# Altium schematic symbol library Connectors.SchLib: 22 symbols
Pins are listed as number, name and electrical type; pins without a type are passive.

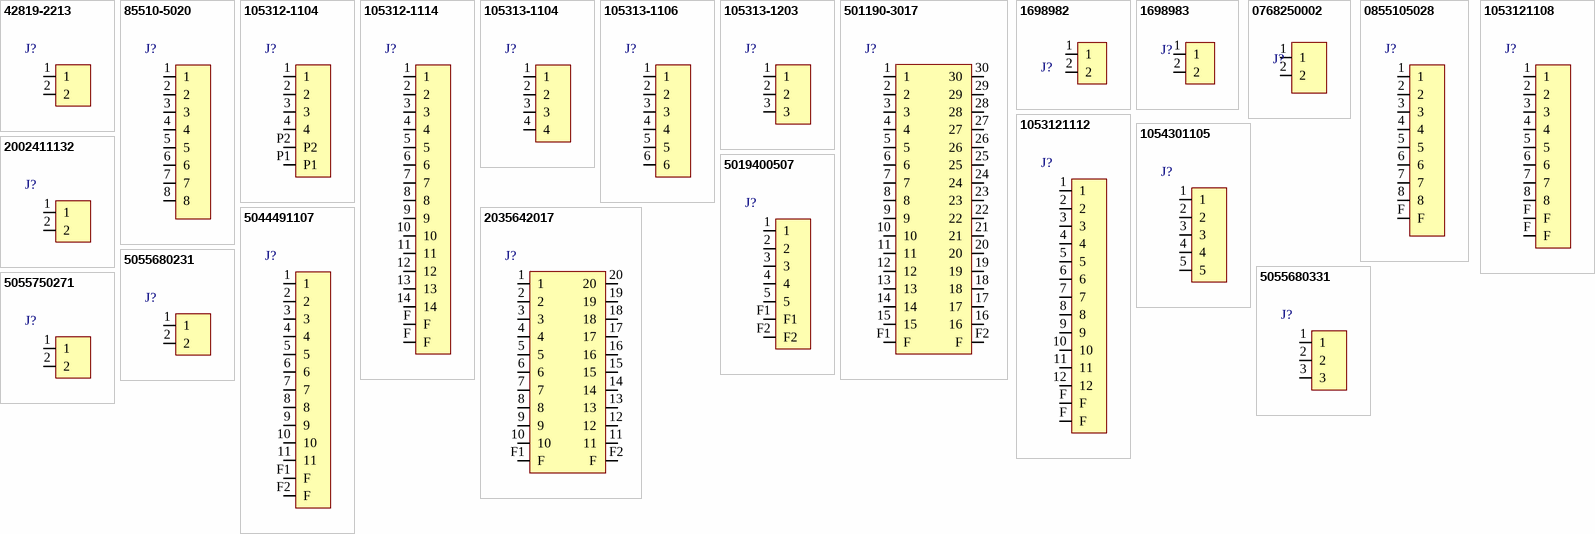
[diagram p0: symbols 42819-2213 to 5055750271]

## 42819-2213
designator J?  (value not drawn)
MOLEX - 42819-2213 - Wire-To-Board Connector, 10 mm, 2 Contacts, Header, Mini-Fit Sr. 42819 Series, Through Hole, 1 Rows; Number of Contacts: 2; Contact Resistance: 1mR; Current Rating: 50A; Voltage Rating: 600V; Gender: Male; Pitch: 10mm; Glow Wire Compliant: Non-compliant; Supplier 1: RSComponents; Manufacturer: Molex; Manufacturer Part Number: 42819-2213; RoHS: Yes; Category: Headers and Wire Housings; Stock 1: 114; Pricing 1: 1=5,81000, 20=5,58100, 75=5,35300, 300=4,06200, 600=3,94100 (USD); Mount: Through Hole; Contact Plating: Gold; Contact Material: Brass,Tin; Color: Black; Housing Material: Thermoplastic; Material: Thermoplastic; Min Operating Temperature: -40°C; Max Operating Temperature: 105°C; Number of Rows: 1; Termination: Solder; Packaging: Tray; Package Quantity: 468; Number of Positions: 2; Orientation: Vertical; Series: 42819; Number of Circuits: 2; Radiation Hardening: No; RoHS Compliant: Yes; REACH SVHC: Unknown; Flammability Rating: UL94 V-0; ComponentLink1URL: https://datasheet.ciiva.com/7920/1481610-7920739.pdf?src-supplier=Element14; ComponentLink1Description: https://datasheet.ciiva.com/7920/1481610-7920739.pdf?src-supplier=Element14; ComponentLink2URL: https://datasheet.ciiva.com/10089/0428192213-pcb-headers-10089410.pdf?src-supplier=Avnet; ComponentLink2Description: https://datasheet.ciiva.com/10089/0428192213-pcb-headers-10089410.pdf?src-supplier=Avnet; ComponentLink3URL: https://datasheet.ciiva.com/30171/305960428192213-pcb-headers-30171150.pdf?src-supplier=Onlinecomponents.com; ComponentLink3Description: https://datasheet.ciiva.com/30171/305960428192213-pcb-headers-30171150.pdf?src-supplier=Onlinecomponents.com; ComponentLink4URL: https://datasheet.ciiva.com/13679/0428192213-pcb-headers-228584-13679074.pdf?src-supplier=Mouser; ComponentLink4Description: https://datasheet.ciiva.com/13679/0428192213-pcb-headers-228584-13679074.pdf?src-supplier=Mouser; ComponentLink5URL: https://datasheet.ciiva.com/30493/0900766b80d5b10d-30493190.pdf?src-supplier=RSComponents; ComponentLink5Description: https://datasheet.ciiva.com/30493/0900766b80d5b10d-30493190.pdf?src-supplier=RSComponents; ComponentLink6URL: https://datasheet.ciiva.com/16725/0428192213-pcb-headers-16725404.pdf?src-supplier=Avnet+Europe; ComponentLink6Description: https://datasheet.ciiva.com/16725/0428192213-pcb-headers-16725404.pdf?src-supplier=Avnet+Europe
footprint CON_428192213
pins: 1, 2

## 85510-5020
designator J?  (value not drawn)
Modular Jack, Vertical, Top Entry, Surface Mount, 8/8, Solder Tabs, 13" Reel; Manufacturer: Molex; Manufacturer Part Number: 85510-5020; Shielding: Unshielded; Connector Type: RJ45; Number of Ports: 1; Number of Positions Loaded: 8; Max Voltage Rating (DC): 125V; Gender: Female; Current Rating: 1.5A; Pitch: 1.27mm; Supplier 1: Newark; RoHS: Yes; Category: Modular / Ethernet Connectors; Stock 1: 964; Pricing 1: 1=1,50000, 10=1,29000, 25=1,25000, 50=1,22000, 100=1,19000, 250=1,18000 (USD); Mount: Surface Mount; Contact Plating: Gold; Contact Material: Copper Alloy,Copper; Housing Color: Black; Housing Material: Thermoplastic; Min Operating Temperature: -40°C; Max Operating Temperature: 80°C; Package Quantity: 1260; Packaging: Tape and Reel; Termination: SMD/SMT; Number of Contacts: 8; Orientation: Straight; Voltage Rating: 125V; Number of Positions: 8; Series: 85510; Length: 15.24mm; Width: 15.24mm; Depth: 17.37mm; REACH SVHC: Unknown; Halogen Free: Low Halogen; RoHS Compliant: Yes; ComponentLink1URL: https://datasheet.ciiva.com/4562/0855105020-modular-jacks-plug-175872-4562581.pdf?src-supplier=Mouser; ComponentLink1Description: https://datasheet.ciiva.com/4562/0855105020-modular-jacks-plug-175872-4562581.pdf?src-supplier=Mouser; ComponentLink2URL: https://datasheet.ciiva.com/24441/41670855105020-modular-jacks-plug-24441365.pdf?src-supplier=Onlinecomponents.com; ComponentLink2Description: https://datasheet.ciiva.com/24441/41670855105020-modular-jacks-plug-24441365.pdf?src-supplier=Onlinecomponents.com; ComponentLink3URL: https://datasheet.ciiva.com/9392/0855105020-modular-jacks-plug-9392962.pdf?src-supplier=Avnet; ComponentLink3Description: https://datasheet.ciiva.com/9392/0855105020-modular-jacks-plug-9392962.pdf?src-supplier=Avnet; ComponentLink4URL: https://datasheet.ciiva.com/26929/getdatasheetpartid-771160-26929557.pdf?src-supplier=Verical; ComponentLink4Description: https://datasheet.ciiva.com/26929/getdatasheetpartid-771160-26929557.pdf?src-supplier=Verical; ComponentLink5URL: https://datasheet.ciiva.com/30261/499550855105020-modular-jacks-plug-30261038.pdf?src-supplier=Onlinecomponents.com; ComponentLink5Description: https://datasheet.ciiva.com/30261/499550855105020-modular-jacks-plug-30261038.pdf?src-supplier=Onlinecomponents.com; ComponentLink6URL: https://datasheet.ciiva.com/16650/0855105020-modular-jacks-plug-16650187.pdf?src-supplier=Avnet+Europe; ComponentLink6Description: https://datasheet.ciiva.com/16650/0855105020-modular-jacks-plug-16650187.pdf?src-supplier=Avnet+Europe; ComponentLink7URL: https://datasheet.ciiva.com/1108/855105019-sd-1108441.pdf?src-supplier=Element14; ComponentLink7Description: https://datasheet.ciiva.com/1108/855105019-sd-1108441.pdf?src-supplier=Element14
pins: 1, 2, 3, 4, 5, 6, 7, 8

## 105312-1104
designator J?  (value not drawn)
Nano-Fit Vertical Header Through Hole 2.50mm Pitch Dual Row 4 Circuits with Solder Clips Tin (Sn) Plating Black; Manufacturer: Molex; Manufacturer Part Number: 105312-1104; Supplier 1: Mouser; RoHS: No; Category: Headers and Wire Housings; Stock 1: 3858; Pricing 1: 1=0.94000, 10=0.86400, 50=0.86400, 100=0.78900, 1000=0.78800, 2940=0.75200, 5880=0.65300, 10000=0.65300, 11760=0.65000 (USD); ComponentLink1URL: https://www.molex.com/pdm_docs/sd/1053121104_sd.pdf?src-supplier=Digi-Key; ComponentLink1Description: https://www.molex.com/pdm_docs/sd/1053121104_sd.pdf?src-supplier=Digi-Key
footprint CON_1053121104
pins: 1, 2, 3, 4, P1, P2

## 105312-1114
designator J?  (value not drawn)
Conn Wire to Board HDR 14 POS 2.5mm Solder ST Top Entry Thru-Hole Tray; Manufacturer: Molex; Manufacturer Part Number: 105312-1114; Supplier 1: Newark; RoHS: No; Category: Headers and Wire Housings; Stock 1: 426; Pricing 1: 1=2,72000, 10=2,48000, 25=2,33000, 50=2,18000, 100=2,03000, 250=1,85000 (USD)
footprint CON_1053121114
pins: 1, 2, 3, 4, 5, 6, 7, 8, 9, 10, 11, 12, 13, 14, F, F

## 105313-1104
designator J?  (value not drawn)
Nano-Fit Right Angle Header Through Hole 2.50mm Pitch Single Row 4 Circuits Tin (Sn) Plating Black; Manufacturer: Molex; Manufacturer Part Number: 105313-1104; Supplier 1: Arrow Electronics; RoHS: Yes; Category: Headers and Wire Housings; Stock 1: 743; Pricing 1: 1=0.86090, 10=0.77650, 100=0.70660, 468=0.69420, 1092=0.63600, 2652=0.59910, 5148=0.59300, 10140=0.57470 (USD); ComponentLink1URL: http://www.farnell.com/datasheets/2551092.pdf?src-supplier=Farnell; ComponentLink1Description: http://www.farnell.com/datasheets/2551092.pdf?src-supplier=Farnell; ComponentLink2URL: http://www.farnell.com/datasheets/2551092.pdf?src-supplier=Newark; ComponentLink2Description: http://www.farnell.com/datasheets/2551092.pdf?src-supplier=Newark; ComponentLink3URL: https://www.molex.com/pdm_docs/ps/PS-105300-100-001.pdf?src-supplier=Digi-Key; ComponentLink3Description: https://www.molex.com/pdm_docs/ps/PS-105300-100-001.pdf?src-supplier=Digi-Key
footprint CON_1053131104
pins: 1, 2, 3, 4

## 105313-1106
designator J?  (value not drawn)
Conn Shrouded Header HDR 6 POS 2.5mm Solder RA Thru-Hole Tray; Manufacturer: Molex; Manufacturer Part Number: 105313-1106; Supplier 1: RSComponents; RoHS: Yes; Category: Headers and Wire Housings; Stock 1: 24; Pricing 1: 102=0.96500 (GBP); ComponentLink1URL: http://www.farnell.com/datasheets/2551093.pdf?src-supplier=Farnell; ComponentLink1Description: http://www.farnell.com/datasheets/2551093.pdf?src-supplier=Farnell; ComponentLink2URL: http://www.farnell.com/datasheets/2551093.pdf?src-supplier=Newark; ComponentLink2Description: http://www.farnell.com/datasheets/2551093.pdf?src-supplier=Newark; ComponentLink3URL: https://www.molex.com/pdm_docs/ps/PS-105300-100-001.pdf?src-supplier=Digi-Key; ComponentLink3Description: https://www.molex.com/pdm_docs/ps/PS-105300-100-001.pdf?src-supplier=Digi-Key
footprint CON_1053131106
pins: 1, 2, 3, 4, 5, 6

## 105313-1203
designator J?  (value not drawn)
Nano-Fit Right Angle Header; Through Hole; 2.50mm; Single Row; 3 Circuit; Gold Plated; Manufacturer: Molex; Manufacturer Part Number: 105313-1203; Supplier 1: Arrow Electronics; RoHS: Yes; Category: Headers and Wire Housings; Stock 1: 3381; Pricing 1: 1=1.35160, 10=1.12800, 100=0.97420, 500=0.94570, 1000=0.78410, 2500=0.78380, 5000=0.75210, 10000=0.68570 (USD); ComponentLink1URL: http://www.farnell.com/datasheets/2221463.pdf?src-supplier=Farnell; ComponentLink1Description: http://www.farnell.com/datasheets/2221463.pdf?src-supplier=Farnell; ComponentLink2URL: http://www.farnell.com/datasheets/2059602.pdf?src-supplier=Element14; ComponentLink2Description: http://www.farnell.com/datasheets/2059602.pdf?src-supplier=Element14; ComponentLink3URL: http://www.farnell.com/datasheets/2221463.pdf?src-supplier=Newark; ComponentLink3Description: http://www.farnell.com/datasheets/2221463.pdf?src-supplier=Newark; ComponentLink4URL: https://www.molex.com/pdm_docs/sd/1053131102_sd.pdf?src-supplier=Digi-Key; ComponentLink4Description: https://www.molex.com/pdm_docs/sd/1053131102_sd.pdf?src-supplier=Digi-Key
footprint CON_1053131203
pins: 1, 2, 3

## 501190-3017
designator J?  (value not drawn)
Conn Shrouded Header (4 Sides) HDR 30 POS 1mm Solder ST SMD T/R; Manufacturer: Molex; Manufacturer Part Number: 501190-3017; Supplier 1: RSComponents; RoHS: Yes; Category: Headers and Wire Housings; Stock 1: 220; Pricing 1: 10=2.44400 (USD); ComponentLink1URL: https://datasheet.ciiva.com/724/5011902017-sd-724419.pdf?src-supplier=Digi-Key; ComponentLink1Description: https://datasheet.ciiva.com/724/5011902017-sd-724419.pdf?src-supplier=Digi-Key; ComponentLink2URL: https://datasheet.ciiva.com/5159/5011903017-pcb-headers-179181-5159216.pdf?src-supplier=Mouser; ComponentLink2Description: https://datasheet.ciiva.com/5159/5011903017-pcb-headers-179181-5159216.pdf?src-supplier=Mouser; ComponentLink3URL: https://datasheet.ciiva.com/11746/0900766b80ae4495-11746736.pdf?src-supplier=RSComponents; ComponentLink3Description: https://datasheet.ciiva.com/11746/0900766b80ae4495-11746736.pdf?src-supplier=RSComponents; ComponentLink4URL: https://datasheet.ciiva.com/30156/70795011903017-pcb-headers-30156749.pdf?src-supplier=Onlinecomponents.com; ComponentLink4Description: https://datasheet.ciiva.com/30156/70795011903017-pcb-headers-30156749.pdf?src-supplier=Onlinecomponents.com; ComponentLink5URL: https://datasheet.ciiva.com/3118/5011903017-pcb-headers-3118357.pdf?src-supplier=Avnet; ComponentLink5Description: https://datasheet.ciiva.com/3118/5011903017-pcb-headers-3118357.pdf?src-supplier=Avnet; ComponentLink6URL: https://datasheet.ciiva.com/8049/1513894-8049973.pdf?src-supplier=Element14; ComponentLink6Description: https://datasheet.ciiva.com/8049/1513894-8049973.pdf?src-supplier=Element14; ComponentLink7URL: https://datasheet.ciiva.com/727/5011903017-sd-727147.pdf?src-supplier=Digi-Key; ComponentLink7Description: https://datasheet.ciiva.com/727/5011903017-sd-727147.pdf?src-supplier=Digi-Key; ComponentLink8URL: https://datasheet.ciiva.com/10034/5011903017-pcb-headers-10034869.pdf?src-supplier=Avnet; ComponentLink8Description: https://datasheet.ciiva.com/10034/5011903017-pcb-headers-10034869.pdf?src-supplier=Avnet
footprint CON_5011903017
pins: 1, 2, 3, 4, 5, 6, 7, 8, 9, 10, 11, 12, 13, 14, 15, 16, 17, 18, 19, 20, 21, 22, 23, 24, 25, 26, 27, 28, 29, 30, F1 F, F2 F

## 1698982
designator J?  (value not drawn)
Banana Socket, 20A, 4MM, Pcb, Red; Manufacturer: Multicomp; Manufacturer Part Number: 24.243.1; Voltage Rating: 30V; Gender: Male; Supplier 1: Newark; RoHS: Yes; Category: Connectors; Stock 1: 20860; Pricing 1: 1=1.33000, 100=1.29000, 250=1.24000, 500=1.19000, 1000=1.08000 (USD); Contact Material: Brass; Contact Plating: Silver; Current Rating: 20A; Termination: Solder; Voltage Rating (DC): 30V; Length: 24mm; REACH SVHC: No SVHC; ComponentLink1URL: http://www.farnell.com/datasheets/2963540.pdf?src-supplier=Farnell; ComponentLink1Description: http://www.farnell.com/datasheets/2963540.pdf?src-supplier=Farnell; ComponentLink2URL: http://www.farnell.com/datasheets/1901211.pdf?src-supplier=Newark; ComponentLink2Description: http://www.farnell.com/datasheets/1901211.pdf?src-supplier=Newark; ComponentLink3URL: http://www.farnell.com/datasheets/1901211.pdf?src-supplier=Element14; ComponentLink3Description: http://www.farnell.com/datasheets/1901211.pdf?src-supplier=Element14
footprint 1698982
pins: 1, 2

## 1698983
designator J?  (value not drawn)
Receptacle, 20A, 4MM, Pcb, Solder, Black; Manufacturer: Multicomp; Manufacturer Part Number: 24.243.2; Gender: Male; Supplier 1: Newark; RoHS: Yes; Category: Connectors; Stock 1: 13031; Pricing 1: 1=1.33000, 100=1.29000, 250=1.24000, 500=1.19000, 1000=1.08000 (USD); Contact Material: Brass; Contact Plating: Silver; Current Rating: 20A; Termination: Solder; Length: 24mm; REACH SVHC: No SVHC; ComponentLink1URL: http://www.farnell.com/datasheets/2963540.pdf?src-supplier=Farnell; ComponentLink1Description: http://www.farnell.com/datasheets/2963540.pdf?src-supplier=Farnell; ComponentLink2URL: http://www.farnell.com/datasheets/1901211.pdf?src-supplier=Element14; ComponentLink2Description: http://www.farnell.com/datasheets/1901211.pdf?src-supplier=Element14; ComponentLink3URL: http://www.farnell.com/datasheets/1901211.pdf?src-supplier=Newark; ComponentLink3Description: http://www.farnell.com/datasheets/1901211.pdf?src-supplier=Newark
footprint 1698982
pins: 1, 2

## 0768250002
designator J?  (value not drawn)
Mega-Fit Right-Angle Header, 2 Circuits, Tin (Sn) Plating, Tray; Manufacturer: Molex; Manufacturer Part Number: 0768250002; Number of Positions: 2; Connector Type: Male Pin; Row Spacing: 0.224inch; Supplier 1: RSComponents; RoHS: Yes; Category: Headers and Wire Housings; Stock 1: 1; Pricing 1: 5=1.30300, 50=1.12200, 250=0.98700, 1000=0.77300, 2500=0.73800 (USD); Mount: Through Hole; Contact Plating: Tin; Color: Black; Number of Rows: 2; Termination: Solder; Packaging: Tray; Fastening Type: Ramp; ComponentLink1URL: https://www.molex.com/pdm_docs/sd/768250002_sd.pdf?src-supplier=Digi-Key; ComponentLink1Description: https://www.molex.com/pdm_docs/sd/768250002_sd.pdf?src-supplier=Digi-Key
footprint CON_768250002_MOL
pins: 1, 2

## 0855105028
designator J?  (value not drawn)
Modular Jack, Vertical, Top Entry, Surface Mount, 8/8, Solder Tabs, 22" Reel; Manufacturer: Molex; Manufacturer Part Number: 0855105028; Shielding: Unshielded; Number of Ports: 1; Number of Positions Loaded: 8; Max Voltage Rating (DC): 125V; Direction: User Selectable; Pitch: 1.27mm; Supplier 1: Mouser; RoHS: Yes; Category: Modular / Ethernet Connectors; Stock 1: 2945; Pricing 1: 1=1,41000, 10=1,16000, 50=1,16000, 100=0,96300, 500=0,86700, 1000=0,77100, 3060=0,69900, 6120=0,69700, 9180=0,69600, 10000=0,69600, 24480=0,69200 (USD); Mount: Surface Mount; Contact Material: Copper Alloy; Contact Plating: Gold; Housing Color: Black; Housing Material: Polymer; Min Operating Temperature: -40°C; Max Operating Temperature: 85°C; Packaging: Tape and Reel; Orientation: Straight; Series: 85510; Package Quantity: 3060; Number of Rows: 1; Termination: Solder; Number of Contacts: 8; Connector Type: Jack; Length: 15.24mm; Depth: 19.37mm; Radiation Hardening: No; RoHS Compliant: Yes; ComponentLink1URL: https://datasheet.ciiva.com/6950/855105018-sd-6950177.pdf?src-supplier=Digi-Key; ComponentLink1Description: https://datasheet.ciiva.com/6950/855105018-sd-6950177.pdf?src-supplier=Digi-Key; ComponentLink2URL: https://datasheet.ciiva.com/3140/0855105028-modular-jacks-plug-3140242.pdf?src-supplier=Avnet; ComponentLink2Description: https://datasheet.ciiva.com/3140/0855105028-modular-jacks-plug-3140242.pdf?src-supplier=Avnet
footprint CON_855105028
pins: 1, 2, 3, 4, 5, 6, 7, 8, F

## 1053121108
designator J?  (value not drawn)
Nano-Fit Vertical Header, Through Hole, 2.50mm Pitch, Dual Row, 8 Circuits, with Solder Clips, Tin (Sn) Plating,...; Manufacturer: Molex; Manufacturer Part Number: 1053121108; Supplier 1: Digi-Key; RoHS: No; Stock 1: 1159; Pricing 1: 1=1,93000, 10=1,64100, 126=1,35563, 1008=1,07021, 4914=0,94892, 10080=0,92752 (USD)
footprint CON_1053121108
pins: 1, 2, 3, 4, 5, 6, 7, 8, F, F

## 1053121112
designator J?  (value not drawn)
Nano-Fit Vertical Header Through Hole 2.50mm Pitch Dual Row 12 Circuits with Solder Clips Tin (Sn) Plating Black; Manufacturer: Molex; Manufacturer Part Number: 1053121112; Supplier 1: Newark; RoHS: No; Stock 1: 184; Pricing 1: 1=2,66000, 10=2,35000, 25=2,26000, 50=2,17000, 100=2,08000, 250=1,88000 (USD)
footprint CON_1053121112
pins: 1, 2, 3, 4, 5, 6, 7, 8, 9, 10, 11, 12, F, F

## 1054301105
designator J?  (value not drawn)
Nano-Fit Right-Angle Header, Surface Mount, 2.50mm Pitch, Single Row, 5 Circuits, 0.76µm Tin (Sn) Plating, Black,...; Manufacturer: Molex; Manufacturer Part Number: 1054301105; Supplier 1: Mouser; RoHS: Yes; Stock 1: 586; Pricing 1: 1=2.55000, 10=2.25000, 50=2.25000, 100=1.79000, 1000=1.73000, 10000=1.73000 (USD)
footprint CON_1053131105
pins: 1, 2, 3, 4, 5

## 2002411132
designator J?  (value not drawn)
Mega-Fit Power Connector Header 2 Position Solder Straight Through Hole; Manufacturer: Molex; Manufacturer Part Number: 2002411132; Supplier 1: Digi-Key; RoHS: Yes; Stock 1: 3120; Pricing 1: 1=4,40000, 10=3,86800, 100=3,07690, 1000=2,54943 (USD)
footprint CON_2002411132_MOL
pins: 1, 2

## 2035642017
designator J?  (value not drawn)
1.00mm Pitch, Pico-Clasp PCB Header, Dual Row, Vertical, Surface Mount, 0.38µm Gold Plated, with Inner Positive Lock,...; Manufacturer: Molex; Manufacturer Part Number: 2035642017; Supplier 1: Mouser; RoHS: Yes; Stock 1: 1849; Pricing 1: 1=2.57000, 10=2.20000, 50=2.20000, 100=1.82000, 500=1.67000, 1000=1.43000, 2500=1.34000, 5000=1.28000, 10000=1.24000, 26400=1.20000 (USD)
footprint CON_2035642017
pins: 1, 2, 3, 4, 5, 6, 7, 8, 9, 10, 11, 12, 13, 14, 15, 16, 17, 18, 19, 20, F1 F, F2 F

## 5019400507
designator J?  (value not drawn)
Conn Shrouded Header (4 Sides) HDR 5 POS 1mm Solder ST Top Entry SMD Pico-Clasp™ T/R; Manufacturer: Molex; Manufacturer Part Number: 5019400507; Supplier 1: Newark; RoHS: Yes; Category: Headers and Wire Housings; Stock 1: 8800; Pricing 1: 1=0.43100, 1100=0.41400, 2200=0.39600, 4400=0.39000, 6600=0.38400, 11000=0.37700 (USD); ComponentLink1URL: https://datasheet.ciiva.com/742/5019400307-sd-742258.pdf?src-supplier=Digi-Key; ComponentLink1Description: https://datasheet.ciiva.com/742/5019400307-sd-742258.pdf?src-supplier=Digi-Key; ComponentLink2URL: https://datasheet.ciiva.com/12918/5019400507-pcb-headers-179134-12918701.pdf?src-supplier=Mouser; ComponentLink2Description: https://datasheet.ciiva.com/12918/5019400507-pcb-headers-179134-12918701.pdf?src-supplier=Mouser; ComponentLink3URL: https://datasheet.ciiva.com/10086/5019400507-pcb-headers-10086727.pdf?src-supplier=Avnet; ComponentLink3Description: https://datasheet.ciiva.com/10086/5019400507-pcb-headers-10086727.pdf?src-supplier=Avnet; ComponentLink4URL: https://datasheet.ciiva.com/10034/5019400507-pcb-headers-10034378.pdf?src-supplier=Avnet; ComponentLink4Description: https://datasheet.ciiva.com/10034/5019400507-pcb-headers-10034378.pdf?src-supplier=Avnet
footprint CON_5019400507
pins: 1, 2, 3, 4, 5, F1, F2

## 5044491107
designator J?  (value not drawn)
Conn Shrouded Header (4 Sides) HDR 11 POS 1mm Solder ST SMD T/R; Manufacturer: Molex; Manufacturer Part Number: 5044491107; Supplier 1: Mouser; RoHS: Yes; Category: Headers and Wire Housings; Stock 1: 4896; Pricing 1: 1=1.47000, 10=1.26000, 50=1.26000, 100=1.04000, 1000=0.95100, 10000=0.73200 (USD); ComponentLink1URL: https://www.molex.com/pdm_docs/sd/5044491107_sd.pdf?src-supplier=Digi-Key; ComponentLink1Description: https://www.molex.com/pdm_docs/sd/5044491107_sd.pdf?src-supplier=Digi-Key
footprint CON_5044491107
pins: 1, 2, 3, 4, 5, 6, 7, 8, 9, 10, 11, F1 F, F2 F

## 5055680231
designator J?  (value not drawn)
Connector Wire to Board Micro-Lock Plug 2 Position 1.25mm Straight Surface Mount Black; Manufacturer: Molex; Manufacturer Part Number: 5055680231; Supplier 1: Digi-Key; RoHS: Yes; Stock 1: 8303; Pricing 1: 1=0,93000, 10=0,77000, 100=0,64200 (USD)
footprint CON_5055680231
pins: 1, 2

## 5055680331
designator J?  (value not drawn)
Connector Wire to Board Micro-Lock Plug 3 Position 1.25mm Straight Surface Mount Black; Manufacturer: Molex; Manufacturer Part Number: 5055680331; Supplier 1: Digi-Key; RoHS: Yes; Stock 1: 1067; Pricing 1: 1=1,00000, 10=0,82400, 100=0,68650 (USD)
footprint CON_5055680331
pins: 1, 2, 3

## 5055750271
designator J?  (value not drawn)
Conn Shrouded Header (4 Sides) HDR 2 POS 2mm Solder ST Top Entry SMD Micro-Lock PLUS T/R; Manufacturer: Molex; Manufacturer Part Number: 5055750271; Connector Type: Header,Male Pin; Number of Positions: 2; Supplier 1: Newark; RoHS: Yes; Category: Connectors; Stock 1: 10200; Pricing 1: 1=0,96700, 10=0,85600, 25=0,82400, 50=0,79300, 100=0,76100, 250=0,70300, 600=0,70300 (USD); Mount: Surface Mount; Contact Plating: Tin; Contact Material: Brass; Contact Shape: Square; Insulation Material: Nylon; Insulation Color: Black; Min Operating Temperature: -40°C; Max Operating Temperature: 105°C; Fastening Type: Ramp; Packaging: Tape and Reel; Number of Rows: 1; Termination: Solder; Flammability Rating: UL94 V-0; RoHS Compliant: Yes
footprint CON_5055750271
pins: 1, 2